# EAGLE library part 7_SEG-CC (library p.peter-leds)
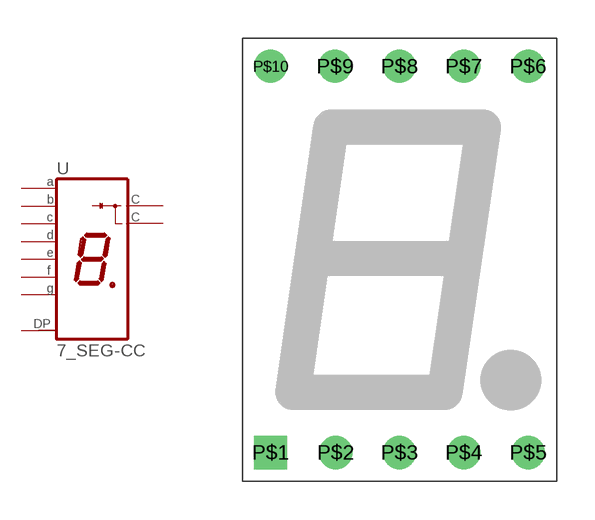
[diagram p0: symbol with the pads of 7_SEG-13MM; footprint 7_SEG-13MM]

Designator prefix -

## 7_SEG-CC13MM  [7_SEG-13MM]
P$1  E  pas
P$2  D  pas
P$3  C  pas
P$4  C  pas
P$5  DP  pas
P$6  B  pas
P$7  A  pas
P$8  C  pas
P$9  F  pas
P$10  G  pas

## Footprint 7_SEG-13MM (pad centres in mm)
drill 0.8 square: P$1 -5.08,-7.62
drill 0.8: P$2 -2.515,-7.62; P$3 0,-7.62; P$4 2.54,-7.62; P$5 5.08,-7.62; P$6 5.08,7.62; P$7 2.54,7.62; P$8 0,7.62; P$9 -2.54,7.62; P$10 -5.08,7.62